# Altium schematic symbol library MECH_BT.SchLib: 1 symbol
Pins are listed as number, name and electrical type; pins without a type are passive.

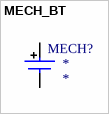
[diagram p0: symbol MECH_BT]

## MECH_BT
designator MECH?
Battery; SCH_Footprint: *; Value: *
footprint BT_MS621FE-FL11E
pins: 1, 2
2 alternate drawings of the same symbol